# EAGLE library part SHC_MINI_ISP (library shc_mini_isp)
smarthomatic mini ISP connector, 1.27mm grid
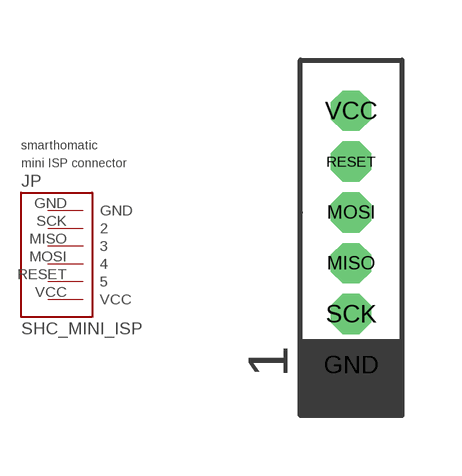
[diagram p0: symbol with the pads of PINHD_1X6_1.27; footprint PINHD_1X6_1.27]

Designator prefix JP

## SHC_MINI_ISPP  [PINHD_1X6_1.27]
GND  GND  pwr
MISO  3
MOSI  4  out
RESET  5  out
SCK  2  out
VCC  VCC  pwr

## Footprint PINHD_1X6_1.27 (pad centres in mm)
drill 0.5 octagon: GND 0,-2.54; MISO 0,0; MOSI 0,1.27; RESET 0,2.54; SCK 0,-1.27; VCC 0,3.81